# Altium footprint library QFN-16_3x3x05P.PcbLib: 1 footprints
Each footprint in its own frame and in the unit in brackets; x right, y up, seen from the top. Pads: shape width x height; smd on the part's side, far side on the other; paste and mask are expansions set on the pad; w line width, h text height; cw(c..) or ccw(c..) is an arc to the next point about the centre after c.
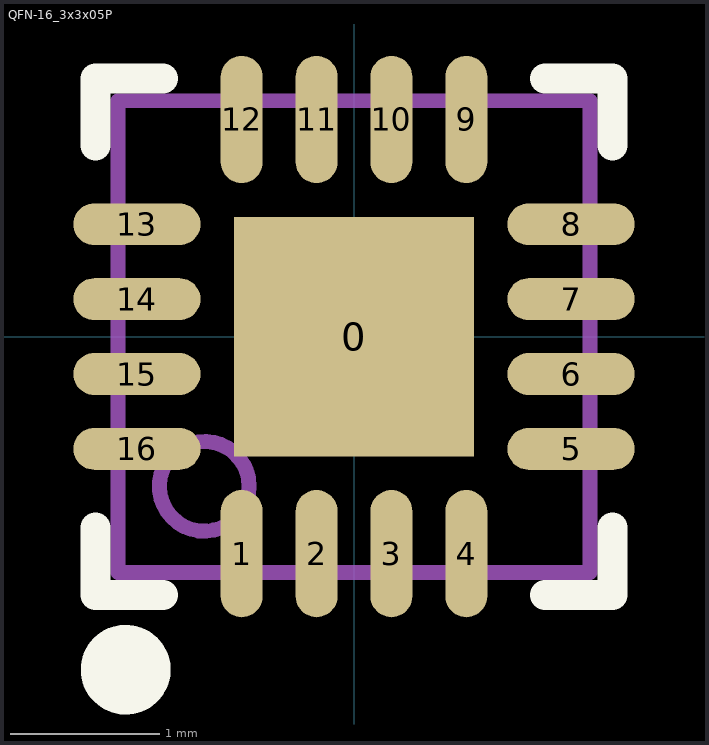
[diagram p0: the footprint, top view; thin cyan lines are the x and y axes]

## QFN-16_3x3x05P [mm] "QFN, 16-Leads, Body 3.00x3.00mm, Pitch 0.50mm, Thermal Pad 1.70x1.70mm, IPC Medium Density"
height 1
pads (17):
  rect 1.6x1.6 smd mask+0.051: 0(0,0)
  oval 0.28x0.85 smd mask+0.051: 1(-0.75,-1.45) 2(-0.25,-1.45) 3(0.25,-1.45) 4(0.75,-1.45) 9(0.75,1.45) 10(0.25,1.45) 11(-0.25,1.45) 12(-0.75,1.45)
  oval 0.85x0.28 smd mask+0.051: 5(1.45,-0.75) 6(1.45,-0.25) 7(1.45,0.25) 8(1.45,0.75) 13(-1.45,0.75) 14(-1.45,0.25) 15(-1.45,-0.25) 16(-1.45,-0.75)
Top Overlay:
  circle w0.3: c-1.525,-2.225 r0.15
  lines w0.2: -1.725,-1.275 -1.725,-1.725 -1.275,-1.725 ; -1.725,1.275 -1.725,1.725 -1.275,1.725 ; 1.275,-1.725 1.725,-1.725 1.725,-1.275 ; 1.275,1.725 1.725,1.725 1.725,1.275
Mechanical 13:
  circle w0.1: c-1,-1 r0.3
  lines w0.1: -1.575,-1.575 1.575,-1.575 1.575,1.575 -1.575,1.575 -1.575,-1.575
3D body: height 0.9, standoff 0, extent -1.521,-1.549 1.521,1.493